# Altium footprint library RESC1812X51N.PcbLib: 2 footprints
Each footprint in its own frame and in the unit in brackets; x right, y up, seen from the top. Pads: shape width x height; smd on the part's side, far side on the other; paste and mask are expansions set on the pad; w line width, h text height; cw(c..) or ccw(c..) is an arc to the next point about the centre after c.
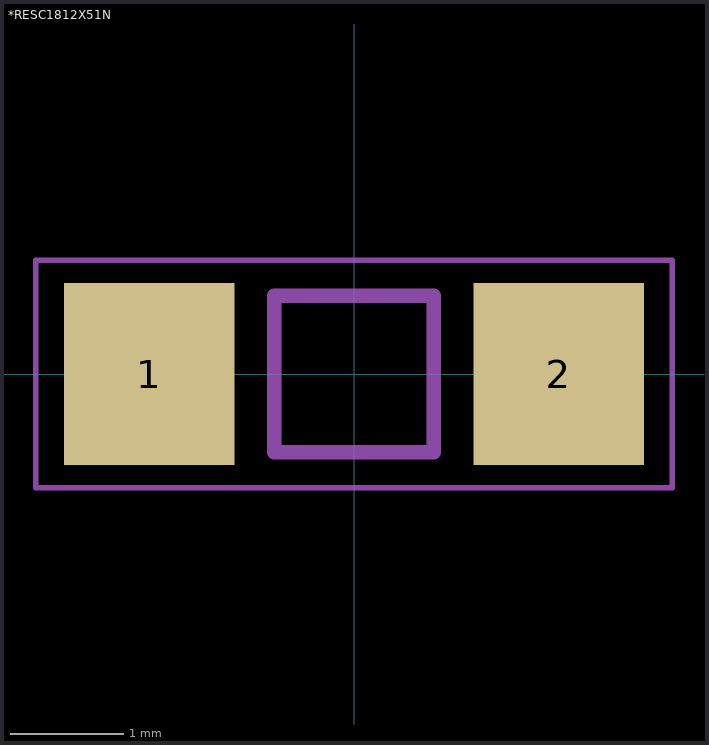
[diagram p0: the footprints below, top view; thin cyan lines are the x and y axes]

## *RESC1812X51N [mm]
pads (2):
  rect 1.5x1.6 smd: 1(-1.8,0) 2(1.8,0)
Mechanical 4:
  lines w0.127: -0.7,-0.69 -0.7,0.69 ; -0.7,-0.69 0.7,-0.69 ; -0.7,-0.69 0.7,-0.69 ; -0.7,0.69 0.7,0.69 ; -0.7,0.69 0.7,0.69 ; 0.7,-0.69 0.7,0.69
Mechanical 16:
  lines w0.05: -2.8,-1 2.8,-1 2.8,1 -2.8,1 -2.8,-1

## PCBComponent_1 [mm]